# EAGLE library part LCD-1602 (library Module)
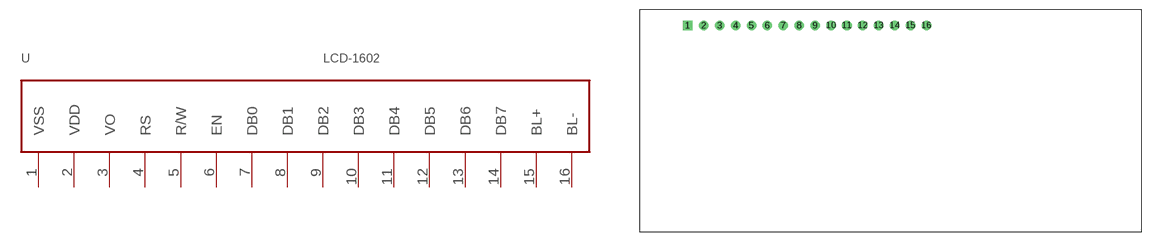
[diagram p5: symbol with the pads of 16P-2.54-78.8X35.6; footprint 16P-2.54-78.8X35.6]

Designator prefix U

## LCD-1602  [16P-2.54-78.8X35.6]
1  VSS
2  VDD
3  VO
4  RS
5  R/W
6  EN
7  DB0
8  DB1
9  DB2
10  DB3
11  DB4
12  DB5
13  DB6
14  DB7
15  BL+
16  BL-

## Footprint 16P-2.54-78.8X35.6 (pad centres in mm)
drill 0.864 pad 1.524 square: 1 0,0
drill 0.864 pad 1.524 round: 2 2.54,0; 3 5.08,0; 4 7.62,0; 5 10.16,0; 6 12.7,0; 7 15.24,0; 8 17.78,0; 9 20.32,0; 10 22.86,0; 11 25.4,0; 12 27.94,0; 13 30.48,0; 14 33.02,0; 15 35.56,0; 16 38.1,0